# EAGLE library part LY68L6400 (library LY68L6400)
Designer: EyupBEY
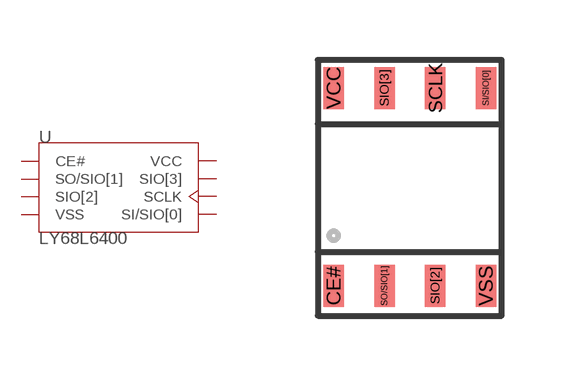
[diagram p0: symbol with the pads of SOP; footprint SOP]

Designator prefix U

## LY68L6400  [SOP]
CE#  CE#
SCLK  SCLK
SI/SIO[0]  SI/SIO[0]
SIO[2]  SIO[2]
SIO[3]  SIO[3]
SO/SIO[1]  SO/SIO[1]
VCC  VCC  pwr
VSS  VSS  pwr

## Footprint SOP (pad centres in mm)
smd 0.51 x 1.05: CE# -2.032,-2.41; SCLK 0.508,2.54; SI/SIO[0] 1.778,2.54; SIO[2] 0.508,-2.41; SIO[3] -0.762,2.54; SO/SIO[1] -0.762,-2.41; VCC -2.032,2.54; VSS 1.778,-2.41